# Altium schematic symbol library NC7WZO7.SchLib: 1 symbol
Pins are listed as number, name and electrical type; pins without a type are passive.

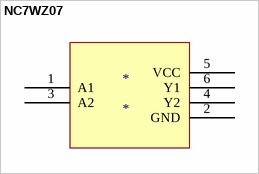
[diagram p0: symbol NC7WZ07]

## NC7WZ07
designator *
footprint SOT363-6L (SOT363, 6-Leads, Body 2x1.3mm, Pitch 0.65mm, Lead Span 2.1mm, IPC High Density)
pins: 1 A1, 2 GND, 3 A2, 4 Y2, 5 VCC, 6 Y1